# EAGLE library part TPS306* (library bschulz)
High input voltage buck-boost converter, 2A switch current, Vin = 2.5V to 12V
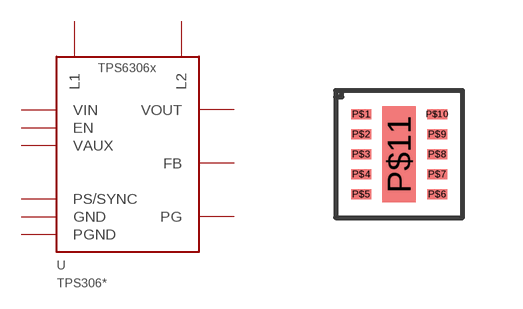
[diagram p8: symbol with the pads of WSON-10; footprint WSON-10]

Designator prefix -

## TPS3060 (DIGIKEY: 296-30204-1-ND; MF: TI; MPN: TPS63060DSCR), TPS3061 (DIGIKEY: 296-30205-1-ND; MF: TI; MPN: TPS63061DSCR)  [WSON-10]
P$1  L1  in
P$2  VIN  in
P$3  EN  in
P$4  PS/SYNC  in
P$5  PG  in
P$6  VAUX  in
P$7  GND  in
P$8  FB  in
P$9  VOUT  in
P$10  L2  in
P$11  PGND  in

## Footprint WSON-10 (pad centres in mm)
smd 0.5 x 0.25: P$1 -0.95,1; P$2 -0.95,0.5; P$3 -0.95,0; P$4 -0.95,-0.5; P$5 -0.95,-1; P$6 0.95,-1; P$7 0.95,-0.5; P$8 0.95,0; P$9 0.95,0.5; P$10 0.95,1
smd 0.84 x 2.4: P$11 0,0